# Altium schematic symbol library SN74LVC4245ADW.SchLib: 1 symbol
Pins are listed as number, name and electrical type; pins without a type are passive.

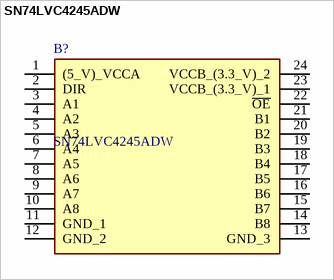
[diagram p0: symbol SN74LVC4245ADW]

## SN74LVC4245ADW
designator B?
SN74LVC4245ADW, Bus Transceiver LVC, 8-Bit Non-Inverting 2.7 to 3.6, 4.5 to 5.5V 24-Pin SOIC; Manufacturer_Name: Texas Instruments; Geometry.Height: 2.65mm; Mouser Part Number: 595-SN74LVC4245ADW; Mouser Price/Stock: https://www.mouser.co.uk/ProductDetail/Texas-Instruments/SN74LVC4245ADW?qs=IF4wzcbwb3pAUkmD9hpWmw%3D%3D; Manufacturer_Part_Number: SN74LVC4245ADW; Datasheet Link: https://datasheet.datasheetarchive.com/originals/distributors/Datasheets-302/24314.pdf
footprint SOIC127P1030X265-24N
pins: 1 (5_V)_VCCA, 2 DIR, 3 A1, 4 A2, 5 A3, 6 A4, 7 A5, 8 A6, 9 A7, 10 A8, 11 GND_1, 12 GND_2, 13 GND_3, 14 B8, 15 B7, 16 B6, 17 B5, 18 B4, 19 B3, 20 B2, 21 B1, 22 ~{OE}, 23 VCCB_(3.3_V)_1, 24 VCCB_(3.3_V)_2